# Altium integrated library TI Power Management Power Modules.IntLib: 831 symbols (part 39 of 44)
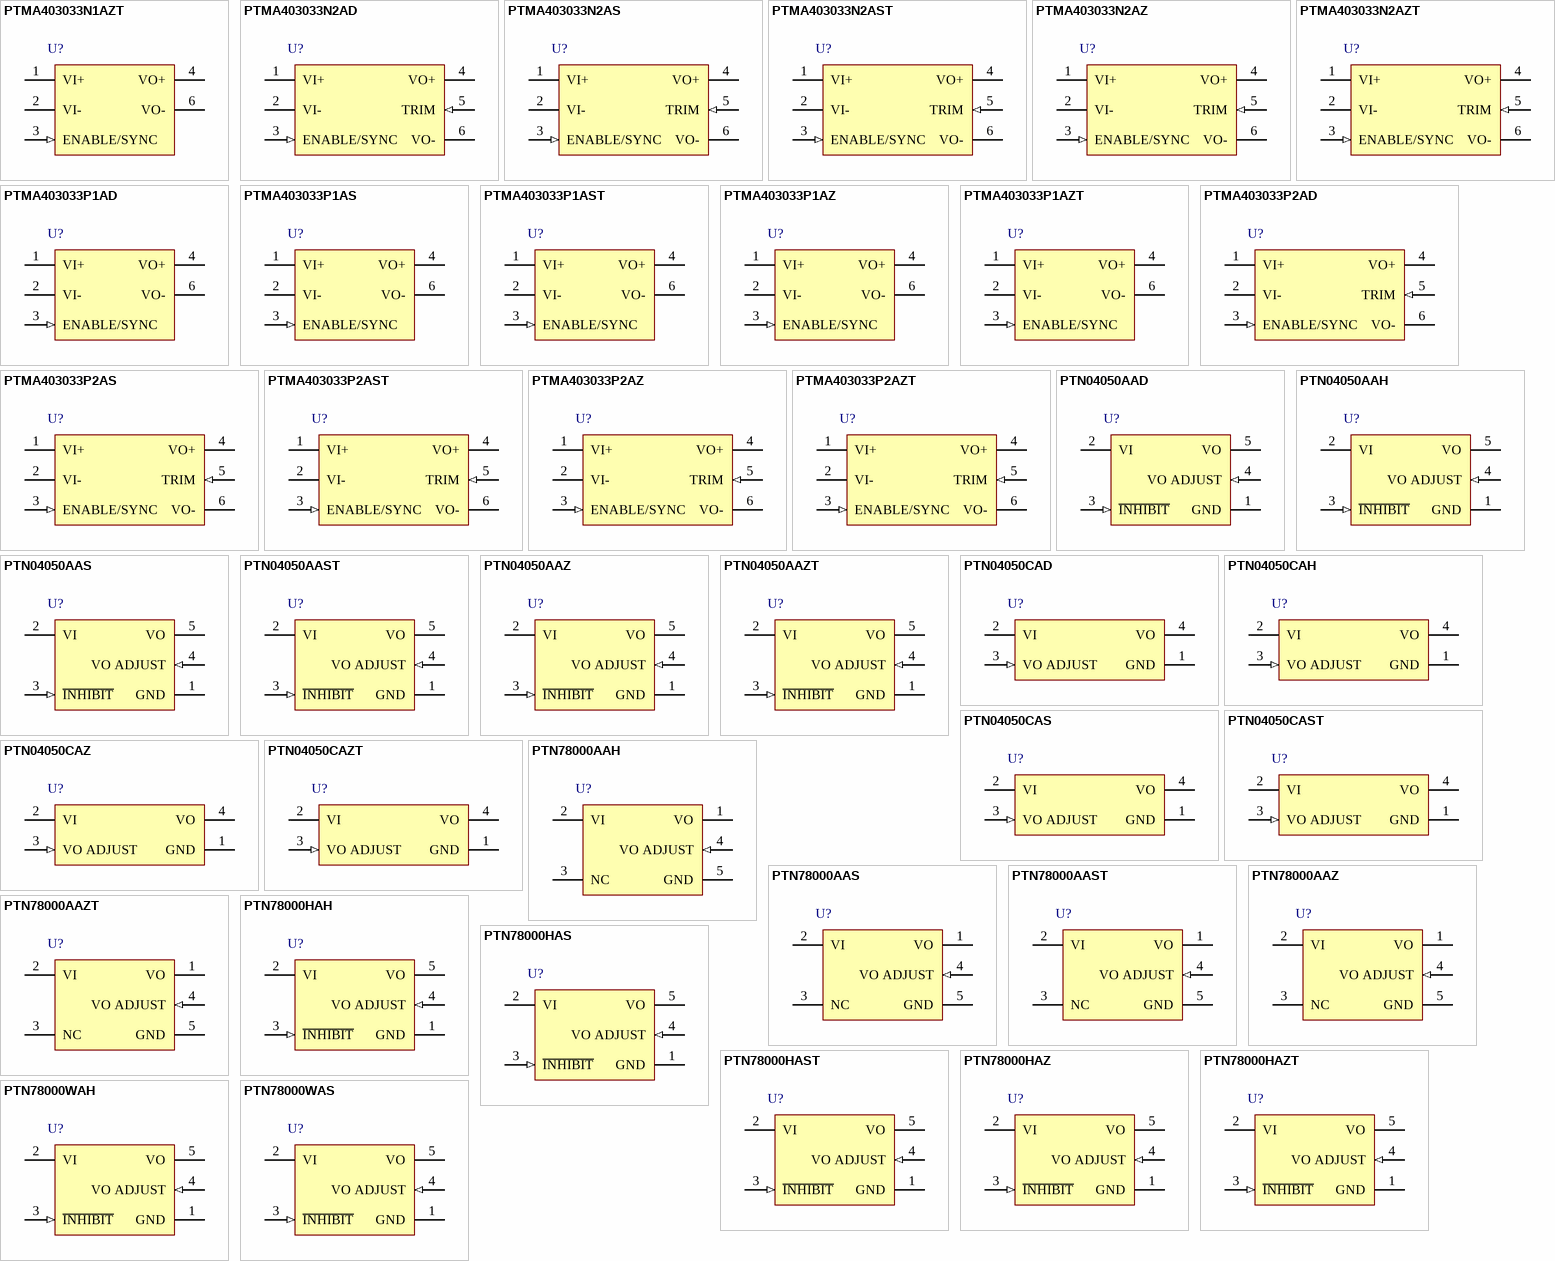
[diagram p61: symbols PTMA403033N1AZT to PTN78000WAS]

## PTN04050AAS
designator U?
6 W, 3.3 / 5 V Input, Wide Adjust Output Positive-to-Negative Converter, -40 to 85 degC, 5-pin Module (EUV5); Manufacturer: Texas Instruments; PartNumber: PTN04050AAS; Eco-Plan: TBD; Iout(Max)(A): 1; SubFamily: Non-Isolated POL; Vin(Max)(V): 7; Vin(Min)(V): 2.9; VO Adjustable: TRUE; Vout(Max)(V): -3.3; Vout(Min)(V): -15; DatasheetVersion: SLTS250; PackageVersion: 4205247-3/C; PackageReference: EUV5; PackageDescription: 5-Pin Plastic Special Shape, Body 12.57 x 22.1 mm; Supplier 1: Digi-Key; Supplier Part Number 1: 296-19681-ND; Supplier 2: Newark; Supplier Part Number 2: 67K8280; Supplier 3: Mouser; Supplier Part Number 3: 595-PTN04050AAS; Regulated Outputs(#): 1; Mounting Technology: Surface Mount; ComponentLink1Description: Manufacturer URL; ComponentLink1URL: http://www.ti.com/; ComponentLink2Description: Datasheet; ComponentLink2URL: http://www.ti.com/general/docs/lit/getliterature.tsp?genericPartNumber=PTN04050A&fileType=pdf; ComponentLink3Description: Package Specification; ComponentLink3URL: http://www.ti.com/lit/ml/mpds236/mpds236.pdf; ComponentLink4Description: URL Link1; ComponentLink4URL: Samples URL:http://www.ti.com/product/ptn04050a#samples
footprint TI-EUV5_V (Module, 5-Leads, Body 22.1x12.57mm)
pins: 1 GND (power) "The common ground connection for the VI and VO power connections. It is also the reference for the VO Adjust control inputs.", 2 VI (power) "The positive input voltage power node to the module, which is referenced to common GND.", 3 ~{INHIBIT} (in) "The Inhibit pin is an open-collector/drain (non-TTL), negative logic input that is referenced to GND. Applying a low-level ground signal to this input disables the module's output. When the Inhibit control is active-low, the (See Datasheet)", 4 VO ADJUST (in) "A 1% resistor must be connected between pin 4 and pin 1 to set the output voltage of the module. If left open-circuit, the output voltage defaults to -1.79 V, which is beyond the recommended operating range. The set-point (See Datasheet)", 5 VO (power) "The negative output voltage power node with respect to the GND node."

## PTN04050AAST
designator U?
6 W, 3.3 / 5 V Input, Wide Adjust Output Positive-to-Negative Converter, -40 to 85 degC, 5-pin Module (EUV5); Manufacturer: Texas Instruments; PartNumber: PTN04050AAST; Eco-Plan: TBD; Iout(Max)(A): 1; SubFamily: Non-Isolated POL; Vin(Max)(V): 7; Vin(Min)(V): 2.9; VO Adjustable: TRUE; Vout(Max)(V): -3.3; Vout(Min)(V): -15; DatasheetVersion: SLTS250; PackageVersion: 4205247-3/C; PackageReference: EUV5; PackageDescription: 5-Pin Plastic Special Shape, Body 12.57 x 22.1 mm; Supplier 1: Digi-Key; Supplier Part Number 1: PTN04050AAST-ND; Supplier 2: Mouser; Supplier Part Number 2: 595-PTN04050AAST; Regulated Outputs(#): 1; Mounting Technology: Surface Mount; ComponentLink1Description: Manufacturer URL; ComponentLink1URL: http://www.ti.com/; ComponentLink2Description: Datasheet; ComponentLink2URL: http://www.ti.com/general/docs/lit/getliterature.tsp?genericPartNumber=PTN04050A&fileType=pdf; ComponentLink3Description: Package Specification; ComponentLink3URL: http://www.ti.com/lit/ml/mpds236/mpds236.pdf; ComponentLink4Description: URL Link1; ComponentLink4URL: Samples URL:http://www.ti.com/product/ptn04050a#samples
footprint TI-EUV5_V (Module, 5-Leads, Body 22.1x12.57mm)
pins: 1 GND (power) "The common ground connection for the VI and VO power connections. It is also the reference for the VO Adjust control inputs.", 2 VI (power) "The positive input voltage power node to the module, which is referenced to common GND.", 3 ~{INHIBIT} (in) "The Inhibit pin is an open-collector/drain (non-TTL), negative logic input that is referenced to GND. Applying a low-level ground signal to this input disables the module's output. When the Inhibit control is active-low, the (See Datasheet)", 4 VO ADJUST (in) "A 1% resistor must be connected between pin 4 and pin 1 to set the output voltage of the module. If left open-circuit, the output voltage defaults to -1.79 V, which is beyond the recommended operating range. The set-point (See Datasheet)", 5 VO (power) "The negative output voltage power node with respect to the GND node."

## PTN04050AAZ
designator U?
6 W, 3.3 / 5 V Input, Wide Adjust Output Positive-to-Negative Converter, -40 to 85 degC, 5-pin Module (EUV5), Pb-Free (RoHS); Manufacturer: Texas Instruments; PartNumber: PTN04050AAZ; Iout(Max)(A): 1; SubFamily: Non-Isolated POL; Vin(Max)(V): 7; Vin(Min)(V): 2.9; VO Adjustable: TRUE; Vout(Max)(V): -3.3; Vout(Min)(V): -15; DatasheetVersion: SLTS250; PackageVersion: 4205247-3/C; PackageReference: EUV5; PackageDescription: 5-Pin Plastic Special Shape, Body 12.57 x 22.1 mm; Supplier 1: Digi-Key; Supplier Part Number 1: 296-20497-ND; Supplier 2: Farnell; Supplier Part Number 2: 1109718; Supplier 3: Newark; Supplier Part Number 3: 92K8243; Supplier 4: Newark; Supplier Part Number 4: 67K8282; Supplier 5: Mouser; Supplier Part Number 5: 595-PTN04050AAZ; Eco-Plan: Pb-Free (RoHS); Regulated Outputs(#): 1; Mounting Technology: Surface Mount; ComponentLink1Description: Manufacturer URL; ComponentLink1URL: http://www.ti.com/; ComponentLink2Description: Datasheet; ComponentLink2URL: http://www.ti.com/general/docs/lit/getliterature.tsp?genericPartNumber=PTN04050A&fileType=pdf; ComponentLink3Description: Package Specification; ComponentLink3URL: http://www.ti.com/lit/ml/mpds236/mpds236.pdf; ComponentLink4Description: URL Link1; ComponentLink4URL: Samples URL:http://www.ti.com/product/ptn04050a#samples
footprint TI-EUV5_V (Module, 5-Leads, Body 22.1x12.57mm)
pins: 1 GND (power) "The common ground connection for the VI and VO power connections. It is also the reference for the VO Adjust control inputs.", 2 VI (power) "The positive input voltage power node to the module, which is referenced to common GND.", 3 ~{INHIBIT} (in) "The Inhibit pin is an open-collector/drain (non-TTL), negative logic input that is referenced to GND. Applying a low-level ground signal to this input disables the module's output. When the Inhibit control is active-low, the (See Datasheet)", 4 VO ADJUST (in) "A 1% resistor must be connected between pin 4 and pin 1 to set the output voltage of the module. If left open-circuit, the output voltage defaults to -1.79 V, which is beyond the recommended operating range. The set-point (See Datasheet)", 5 VO (power) "The negative output voltage power node with respect to the GND node."

## PTN04050AAZT
designator U?
6 W, 3.3 / 5 V Input, Wide Adjust Output Positive-to-Negative Converter, -40 to 85 degC, 5-pin Module (EUV5), Pb-Free (RoHS); Manufacturer: Texas Instruments; PartNumber: PTN04050AAZT; Iout(Max)(A): 1; SubFamily: Non-Isolated POL; Vin(Max)(V): 7; Vin(Min)(V): 2.9; VO Adjustable: TRUE; Vout(Max)(V): -3.3; Vout(Min)(V): -15; DatasheetVersion: SLTS250; PackageVersion: 4205247-3/C; PackageReference: EUV5; PackageDescription: 5-Pin Plastic Special Shape, Body 12.57 x 22.1 mm; Supplier 1: Digi-Key; Supplier Part Number 1: 296-32208-2-ND; Supplier 2: Digi-Key; Supplier Part Number 2: 296-32208-1-ND; Supplier 3: Digi-Key; Supplier Part Number 3: 296-32208-6-ND; Supplier 4: Newark; Supplier Part Number 4: 67K8283; Supplier 5: Mouser; Supplier Part Number 5: 595-PTN04050AAZT; Eco-Plan: Pb-Free (RoHS); Regulated Outputs(#): 1; Mounting Technology: Surface Mount; ComponentLink1Description: Manufacturer URL; ComponentLink1URL: http://www.ti.com/; ComponentLink2Description: Datasheet; ComponentLink2URL: http://www.ti.com/general/docs/lit/getliterature.tsp?genericPartNumber=PTN04050A&fileType=pdf; ComponentLink3Description: Package Specification; ComponentLink3URL: http://www.ti.com/lit/ml/mpds236/mpds236.pdf; ComponentLink4Description: URL Link1; ComponentLink4URL: Samples URL:http://www.ti.com/product/ptn04050a#samples
footprint TI-EUV5_V (Module, 5-Leads, Body 22.1x12.57mm)
pins: 1 GND (power) "The common ground connection for the VI and VO power connections. It is also the reference for the VO Adjust control inputs.", 2 VI (power) "The positive input voltage power node to the module, which is referenced to common GND.", 3 ~{INHIBIT} (in) "The Inhibit pin is an open-collector/drain (non-TTL), negative logic input that is referenced to GND. Applying a low-level ground signal to this input disables the module's output. When the Inhibit control is active-low, the (See Datasheet)", 4 VO ADJUST (in) "A 1% resistor must be connected between pin 4 and pin 1 to set the output voltage of the module. If left open-circuit, the output voltage defaults to -1.79 V, which is beyond the recommended operating range. The set-point (See Datasheet)", 5 VO (power) "The negative output voltage power node with respect to the GND node."

## PTN04050CAD
designator U?
12 W, 3.3 / 5 V Input, Wide Adjust Output Boost Converter, -40 to 85 degC, 4-pin Module (EUU4), Pb-Free (RoHS); Manufacturer: Texas Instruments; PartNumber: PTN04050CAD; Iout(Max)(A): 2.4; Regulated Outputs(#): 1; SubFamily: Non-Isolated POL; Vin(Max)(V): 5.5; Vin(Min)(V): 2.95; VO Adjustable: TRUE; Vout(Max)(V): 15; Vout(Min)(V): 5; DatasheetVersion: SLTS251A; PackageVersion: 4205246-2/C; PackageReference: EUU4; PackageDescription: 4-Pin Plastic Special Shape, Body 12.57 x 22.1 mm; Supplier 1: Digi-Key; Supplier Part Number 1: 296-20498-ND; Supplier 2: Farnell; Supplier Part Number 2: 1109719; Supplier 3: Farnell; Supplier Part Number 3: 2126725; Supplier 4: Newark; Supplier Part Number 4: 61K1475; Supplier 5: Mouser; Supplier Part Number 5: 595-PTN04050CAD; Eco-Plan: Pb-Free (RoHS); Mounting Technology: Through Hole; ComponentLink1Description: Manufacturer URL; ComponentLink1URL: http://www.ti.com/; ComponentLink2Description: Datasheet; ComponentLink2URL: http://www.ti.com/general/docs/lit/getliterature.tsp?genericPartNumber=PTN04050C&fileType=pdf; ComponentLink3Description: Package Specification; ComponentLink3URL: http://www.ti.com/litv/pdf/mpds218a; ComponentLink4Description: URL Link1; ComponentLink4URL: Samples URL:http://www.ti.com/product/ptn04050c#samples
footprint TI-EUU4_V (Module, 4-Leads, Body 22.1x12.57mm)
pins: 1 GND (power) "This is the common ground connection for the VI and VO power connections. It is also the 0 Vdc reference for the VO Adjust control input.", 2 VI (power) "The positive input voltage power node to the module, which is referenced to common GND.", 3 VO ADJUST (in) "A 1% resistor must be connected between this pin and GND (pin 1) to set the output voltage. If left open-circuit, the output voltage will default to its minimum adjust value. The temperature stability of the resistor should (See Datasheet)", 4 VO (power) "The regulated positive power output with respect to the GND node."

## PTN04050CAH
designator U?
12 W, 3.3 / 5 V Input, Wide Adjust Output Boost Converter, -40 to 85 degC, 4-pin Module (EUU4), Pb-Free (RoHS); Manufacturer: Texas Instruments; PartNumber: PTN04050CAH; Iout(Max)(A): 2.4; Regulated Outputs(#): 1; SubFamily: Non-Isolated POL; Vin(Max)(V): 5.5; Vin(Min)(V): 2.95; VO Adjustable: TRUE; Vout(Max)(V): 15; Vout(Min)(V): 5; DatasheetVersion: SLTS251A; PackageVersion: 4205246-2/C; PackageReference: EUU4; PackageDescription: 4-Pin Plastic Special Shape, Body 12.57 x 22.1 mm; Supplier 1: Digi-Key; Supplier Part Number 1: 296-20499-ND; Supplier 2: Farnell; Supplier Part Number 2: 2114043; Supplier 3: Newark; Supplier Part Number 3: 26M8300; Supplier 4: Mouser; Supplier Part Number 4: 595-PTN04050CAH; Eco-Plan: Pb-Free (RoHS); Mounting Technology: Through Hole; ComponentLink1Description: Manufacturer URL; ComponentLink1URL: http://www.ti.com/; ComponentLink2Description: Datasheet; ComponentLink2URL: http://www.ti.com/general/docs/lit/getliterature.tsp?genericPartNumber=PTN04050C&fileType=pdf; ComponentLink3Description: Package Specification; ComponentLink3URL: http://www.ti.com/litv/pdf/mpds218a; ComponentLink4Description: URL Link1; ComponentLink4URL: Samples URL:http://www.ti.com/product/ptn04050c#samples
footprint TI-EUU4_V (Module, 4-Leads, Body 22.1x12.57mm)
pins: 1 GND (power) "This is the common ground connection for the VI and VO power connections. It is also the 0 Vdc reference for the VO Adjust control input.", 2 VI (power) "The positive input voltage power node to the module, which is referenced to common GND.", 3 VO ADJUST (in) "A 1% resistor must be connected between this pin and GND (pin 1) to set the output voltage. If left open-circuit, the output voltage will default to its minimum adjust value. The temperature stability of the resistor should (See Datasheet)", 4 VO (power) "The regulated positive power output with respect to the GND node."

## PTN04050CAS
designator U?
12 W, 3.3 / 5 V Input, Wide Adjust Output Boost Converter, -40 to 85 degC, 4-pin Module (EUV4); Manufacturer: Texas Instruments; PartNumber: PTN04050CAS; Eco-Plan: TBD; Iout(Max)(A): 2.4; Regulated Outputs(#): 1; SubFamily: Non-Isolated POL; Vin(Max)(V): 5.5; Vin(Min)(V): 2.95; VO Adjustable: TRUE; Vout(Max)(V): 15; Vout(Min)(V): 5; DatasheetVersion: SLTS251A; PackageVersion: 4205247-2/C; PackageReference: EUV4; PackageDescription: 4-Pin Plastic Special Shape, Body 12.57 x 22.1 mm; Supplier 1: Digi-Key; Supplier Part Number 1: 296-19682-ND; Supplier 2: Newark; Supplier Part Number 2: 61K1477; Supplier 3: Mouser; Supplier Part Number 3: 595-PTN04050CAS; Mounting Technology: Surface Mount; ComponentLink1Description: Manufacturer URL; ComponentLink1URL: http://www.ti.com/; ComponentLink2Description: Datasheet; ComponentLink2URL: http://www.ti.com/general/docs/lit/getliterature.tsp?genericPartNumber=PTN04050C&fileType=pdf; ComponentLink3Description: Package Specification; ComponentLink3URL: http://www.ti.com/lit/ml/mpds219a/mpds219a.pdf; ComponentLink4Description: URL Link1; ComponentLink4URL: Samples URL:http://www.ti.com/product/ptn04050c#samples
footprint TI-EUV4_V (Module, 4-Leads, Body 22.1x12.57mm)
pins: 1 GND (power) "This is the common ground connection for the VI and VO power connections. It is also the 0 Vdc reference for the VO Adjust control input.", 2 VI (power) "The positive input voltage power node to the module, which is referenced to common GND.", 3 VO ADJUST (in) "A 1% resistor must be connected between this pin and GND (pin 1) to set the output voltage. If left open-circuit, the output voltage will default to its minimum adjust value. The temperature stability of the resistor should (See Datasheet)", 4 VO (power) "The regulated positive power output with respect to the GND node."

## PTN04050CAST
designator U?
12 W, 3.3 / 5 V Input, Wide Adjust Output Boost Converter, -40 to 85 degC, 4-pin Module (EUV4); Manufacturer: Texas Instruments; PartNumber: PTN04050CAST; Eco-Plan: TBD; Iout(Max)(A): 2.4; Regulated Outputs(#): 1; SubFamily: Non-Isolated POL; Vin(Max)(V): 5.5; Vin(Min)(V): 2.95; VO Adjustable: TRUE; Vout(Max)(V): 15; Vout(Min)(V): 5; DatasheetVersion: SLTS251A; PackageVersion: 4205247-2/C; PackageReference: EUV4; PackageDescription: 4-Pin Plastic Special Shape, Body 12.57 x 22.1 mm; Supplier 1: Digi-Key; Supplier Part Number 1: PTN04050CAST-ND; Supplier 2: Mouser; Supplier Part Number 2: 595-PTN04050CAST; Mounting Technology: Surface Mount; ComponentLink1Description: Manufacturer URL; ComponentLink1URL: http://www.ti.com/; ComponentLink2Description: Datasheet; ComponentLink2URL: http://www.ti.com/general/docs/lit/getliterature.tsp?genericPartNumber=PTN04050C&fileType=pdf; ComponentLink3Description: Package Specification; ComponentLink3URL: http://www.ti.com/lit/ml/mpds219a/mpds219a.pdf; ComponentLink4Description: URL Link1; ComponentLink4URL: Samples URL:http://www.ti.com/product/ptn04050c#samples
footprint TI-EUV4_V (Module, 4-Leads, Body 22.1x12.57mm)
pins: 1 GND (power) "This is the common ground connection for the VI and VO power connections. It is also the 0 Vdc reference for the VO Adjust control input.", 2 VI (power) "The positive input voltage power node to the module, which is referenced to common GND.", 3 VO ADJUST (in) "A 1% resistor must be connected between this pin and GND (pin 1) to set the output voltage. If left open-circuit, the output voltage will default to its minimum adjust value. The temperature stability of the resistor should (See Datasheet)", 4 VO (power) "The regulated positive power output with respect to the GND node."

## PTN04050CAZ
designator U?
12 W, 3.3 / 5 V Input, Wide Adjust Output Boost Converter, -40 to 85 degC, 4-pin Module (EUV4), Pb-Free (RoHS); Manufacturer: Texas Instruments; PartNumber: PTN04050CAZ; Iout(Max)(A): 2.4; Regulated Outputs(#): 1; SubFamily: Non-Isolated POL; Vin(Max)(V): 5.5; Vin(Min)(V): 2.95; VO Adjustable: TRUE; Vout(Max)(V): 15; Vout(Min)(V): 5; DatasheetVersion: SLTS251A; PackageVersion: 4205247-2/C; PackageReference: EUV4; PackageDescription: 4-Pin Plastic Special Shape, Body 12.57 x 22.1 mm; Supplier 1: Digi-Key; Supplier Part Number 1: 296-20500-ND; Supplier 2: Farnell; Supplier Part Number 2: 1109720; Supplier 3: Newark; Supplier Part Number 3: 92K8245; Supplier 4: Newark; Supplier Part Number 4: 61K1479; Supplier 5: Mouser; Supplier Part Number 5: 595-PTN04050CAZ; Eco-Plan: Pb-Free (RoHS); Mounting Technology: Surface Mount; ComponentLink1Description: Manufacturer URL; ComponentLink1URL: http://www.ti.com/; ComponentLink2Description: Datasheet; ComponentLink2URL: http://www.ti.com/general/docs/lit/getliterature.tsp?genericPartNumber=PTN04050C&fileType=pdf; ComponentLink3Description: Package Specification; ComponentLink3URL: http://www.ti.com/lit/ml/mpds219a/mpds219a.pdf; ComponentLink4Description: URL Link1; ComponentLink4URL: Samples URL:http://www.ti.com/product/ptn04050c#samples
footprint TI-EUV4_V (Module, 4-Leads, Body 22.1x12.57mm)
pins: 1 GND (power) "This is the common ground connection for the VI and VO power connections. It is also the 0 Vdc reference for the VO Adjust control input.", 2 VI (power) "The positive input voltage power node to the module, which is referenced to common GND.", 3 VO ADJUST (in) "A 1% resistor must be connected between this pin and GND (pin 1) to set the output voltage. If left open-circuit, the output voltage will default to its minimum adjust value. The temperature stability of the resistor should (See Datasheet)", 4 VO (power) "The regulated positive power output with respect to the GND node."

## PTN04050CAZT
designator U?
12 W, 3.3 / 5 V Input, Wide Adjust Output Boost Converter, -40 to 85 degC, 4-pin Module (EUV4), Pb-Free (RoHS); Manufacturer: Texas Instruments; PartNumber: PTN04050CAZT; Iout(Max)(A): 2.4; Regulated Outputs(#): 1; SubFamily: Non-Isolated POL; Vin(Max)(V): 5.5; Vin(Min)(V): 2.95; VO Adjustable: TRUE; Vout(Max)(V): 15; Vout(Min)(V): 5; DatasheetVersion: SLTS251A; PackageVersion: 4205247-2/C; PackageReference: EUV4; PackageDescription: 4-Pin Plastic Special Shape, Body 12.57 x 22.1 mm; Supplier 1: Digi-Key; Supplier Part Number 1: 296-32209-2-ND; Supplier 2: Digi-Key; Supplier Part Number 2: 296-32209-1-ND; Supplier 3: Digi-Key; Supplier Part Number 3: 296-32209-6-ND; Supplier 4: Newark; Supplier Part Number 4: 61K1480; Supplier 5: Mouser; Supplier Part Number 5: 595-PTN04050CAZT; Eco-Plan: Pb-Free (RoHS); Mounting Technology: Surface Mount; ComponentLink1Description: Manufacturer URL; ComponentLink1URL: http://www.ti.com/; ComponentLink2Description: Datasheet; ComponentLink2URL: http://www.ti.com/general/docs/lit/getliterature.tsp?genericPartNumber=PTN04050C&fileType=pdf; ComponentLink3Description: Package Specification; ComponentLink3URL: http://www.ti.com/lit/ml/mpds219a/mpds219a.pdf; ComponentLink4Description: URL Link1; ComponentLink4URL: Samples URL:http://www.ti.com/product/ptn04050c#samples
footprint TI-EUV4_V (Module, 4-Leads, Body 22.1x12.57mm)
pins: 1 GND (power) "This is the common ground connection for the VI and VO power connections. It is also the 0 Vdc reference for the VO Adjust control input.", 2 VI (power) "The positive input voltage power node to the module, which is referenced to common GND.", 3 VO ADJUST (in) "A 1% resistor must be connected between this pin and GND (pin 1) to set the output voltage. If left open-circuit, the output voltage will default to its minimum adjust value. The temperature stability of the resistor should (See Datasheet)", 4 VO (power) "The regulated positive power output with respect to the GND node."

## PTN78000AAH
designator U?
1.5 A, Wide Input, Non-Isolated, Wide Negative Output Adjust Module, -40 to 85 degC, 5-pin Module (EUS5), Pb-Free (RoHS); Manufacturer: Texas Instruments; PartNumber: PTN78000AAH; Iout(Max)(A): 1.5; Regulated Outputs(#): 1; SubFamily: Buck/Boost & Negative Output Module; Vin(Max)(V): 29; Vin(Min)(V): 7; VO Adjustable: TRUE; Vout(Max)(V): -3; Vout(Min)(V): -15; DatasheetVersion: SLTS246B; PackageVersion: 4204990-2/C; PackageReference: EUS5; PackageDescription: 5-Pin Plastic Special Shape, Body 12.57 x 18.92 mm; Supplier 1: Digi-Key; Supplier Part Number 1: 296-20501-ND; Supplier 2: Farnell; Supplier Part Number 2: 1704198; Supplier 3: Newark; Supplier Part Number 3: 28K3818; Supplier 4: Mouser; Supplier Part Number 4: 595-PTN78000AAH; Eco-Plan: Pb-Free (RoHS); Mounting Technology: Through Hole; ComponentLink1Description: Manufacturer URL; ComponentLink1URL: http://www.ti.com/; ComponentLink2Description: Datasheet; ComponentLink2URL: http://www.ti.com/general/docs/lit/getliterature.tsp?genericPartNumber=PTN78000A&fileType=pdf; ComponentLink3Description: Package Specification; ComponentLink3URL: http://www.ti.com/litv/pdf/mpds139b; ComponentLink4Description: URL Link1; ComponentLink4URL: Samples URL:http://www.ti.com/product/ptn78000a#samples
footprint TI-EUS5_V (5-Leads, Plastic Special Shape, Body 18.92x12.57mm)
pins: 1 VO (power) "The negative output voltage power node with respect to the GND node. It is also the reference for the VO Adjust control inputs.", 2 VI (power) "The positive input voltage power node to the module, which is referenced to common GND.", 3 NC "This pin is active and must be isolated from any electrical connection.", 4 VO ADJUST (in) "A 1% resistor must be connected between pin 1 and pin 4 to set the output voltage of the module lower than -3 V. If left open-circuit, the output voltage defaults to -3 V. The temperature stability of the resistor should be (See Datasheet)", 5 GND (power) "The common ground connection for the VI and VO power connections."

## PTN78000AAS
designator U?
1.5 A, Wide Input, Non-Isolated, Wide Negative Output Adjust Module, -40 to 85 degC, 5-pin Module (EUT5); Manufacturer: Texas Instruments; PartNumber: PTN78000AAS; Eco-Plan: TBD; Iout(Max)(A): 1.5; Regulated Outputs(#): 1; SubFamily: Buck/Boost & Negative Output Module; Vin(Max)(V): 29; Vin(Min)(V): 7; VO Adjustable: TRUE; Vout(Max)(V): -3; Vout(Min)(V): -15; DatasheetVersion: SLTS246B; PackageVersion: 4204991-2/C; PackageReference: EUT5; PackageDescription: 5-Pin Plastic Special Shape, Body 12.57 x 18.92 mm; Supplier 1: Digi-Key; Supplier Part Number 1: 296-19753-ND; Supplier 2: Newark; Supplier Part Number 2: 28K3819; Supplier 3: Mouser; Supplier Part Number 3: 595-PTN78000AAS; Mounting Technology: Surface Mount; ComponentLink1Description: Manufacturer URL; ComponentLink1URL: http://www.ti.com/; ComponentLink2Description: Datasheet; ComponentLink2URL: http://www.ti.com/general/docs/lit/getliterature.tsp?genericPartNumber=PTN78000A&fileType=pdf; ComponentLink3Description: Package Specification; ComponentLink3URL: http://www.ti.com/lit/ml/mpds140b/mpds140b.pdf; ComponentLink4Description: URL Link1; ComponentLink4URL: Samples URL:http://www.ti.com/product/ptn78000a#samples
footprint TI-EUT5_V (Module, 5-Leads, Body 18.92x12.57 mm)
pins: 1 VO (power) "The negative output voltage power node with respect to the GND node. It is also the reference for the VO Adjust control inputs.", 2 VI (power) "The positive input voltage power node to the module, which is referenced to common GND.", 3 NC "This pin is active and must be isolated from any electrical connection.", 4 VO ADJUST (in) "A 1% resistor must be connected between pin 1 and pin 4 to set the output voltage of the module lower than -3 V. If left open-circuit, the output voltage defaults to -3 V. The temperature stability of the resistor should be (See Datasheet)", 5 GND (power) "The common ground connection for the VI and VO power connections."

## PTN78000AAST
designator U?
1.5 A, Wide Input, Non-Isolated, Wide Negative Output Adjust Module, -40 to 85 degC, 5-pin Module (EUT5); Manufacturer: Texas Instruments; PartNumber: PTN78000AAST; Eco-Plan: TBD; Iout(Max)(A): 1.5; Regulated Outputs(#): 1; SubFamily: Buck/Boost & Negative Output Module; Vin(Max)(V): 29; Vin(Min)(V): 7; VO Adjustable: TRUE; Vout(Max)(V): -3; Vout(Min)(V): -15; DatasheetVersion: SLTS246B; PackageVersion: 4204991-2/C; PackageReference: EUT5; PackageDescription: 5-Pin Plastic Special Shape, Body 12.57 x 18.92 mm; Supplier 1: Digi-Key; Supplier Part Number 1: PTN78000AAST-ND; Supplier 2: Newark; Supplier Part Number 2: 28K3820; Supplier 3: Mouser; Supplier Part Number 3: 595-PTN78000AAST; Mounting Technology: Surface Mount; ComponentLink1Description: Manufacturer URL; ComponentLink1URL: http://www.ti.com/; ComponentLink2Description: Datasheet; ComponentLink2URL: http://www.ti.com/general/docs/lit/getliterature.tsp?genericPartNumber=PTN78000A&fileType=pdf; ComponentLink3Description: Package Specification; ComponentLink3URL: http://www.ti.com/lit/ml/mpds140b/mpds140b.pdf; ComponentLink4Description: URL Link1; ComponentLink4URL: Samples URL:http://www.ti.com/product/ptn78000a#samples
footprint TI-EUT5_V (Module, 5-Leads, Body 18.92x12.57 mm)
pins: 1 VO (power) "The negative output voltage power node with respect to the GND node. It is also the reference for the VO Adjust control inputs.", 2 VI (power) "The positive input voltage power node to the module, which is referenced to common GND.", 3 NC "This pin is active and must be isolated from any electrical connection.", 4 VO ADJUST (in) "A 1% resistor must be connected between pin 1 and pin 4 to set the output voltage of the module lower than -3 V. If left open-circuit, the output voltage defaults to -3 V. The temperature stability of the resistor should be (See Datasheet)", 5 GND (power) "The common ground connection for the VI and VO power connections."

## PTN78000AAZ
designator U?
1.5 A, Wide Input, Non-Isolated, Wide Negative Output Adjust Module, -40 to 85 degC, 5-pin Module (EUT5), Pb-Free (RoHS); Manufacturer: Texas Instruments; PartNumber: PTN78000AAZ; Iout(Max)(A): 1.5; Regulated Outputs(#): 1; SubFamily: Buck/Boost & Negative Output Module; Vin(Max)(V): 29; Vin(Min)(V): 7; VO Adjustable: TRUE; Vout(Max)(V): -3; Vout(Min)(V): -15; DatasheetVersion: SLTS246B; PackageVersion: 4204991-2/C; PackageReference: EUT5; PackageDescription: 5-Pin Plastic Special Shape, Body 12.57 x 18.92 mm; Supplier 1: Digi-Key; Supplier Part Number 1: 296-20502-ND; Supplier 2: Farnell; Supplier Part Number 2: 1109700; Supplier 3: Newark; Supplier Part Number 3: 28K3821; Supplier 4: Mouser; Supplier Part Number 4: 595-PTN78000AAZ; Eco-Plan: Pb-Free (RoHS); Mounting Technology: Surface Mount; ComponentLink1Description: Manufacturer URL; ComponentLink1URL: http://www.ti.com/; ComponentLink2Description: Datasheet; ComponentLink2URL: http://www.ti.com/general/docs/lit/getliterature.tsp?genericPartNumber=PTN78000A&fileType=pdf; ComponentLink3Description: Package Specification; ComponentLink3URL: http://www.ti.com/lit/ml/mpds140b/mpds140b.pdf; ComponentLink4Description: URL Link1; ComponentLink4URL: Samples URL:http://www.ti.com/product/ptn78000a#samples
footprint TI-EUT5_V (Module, 5-Leads, Body 18.92x12.57 mm)
pins: 1 VO (power) "The negative output voltage power node with respect to the GND node. It is also the reference for the VO Adjust control inputs.", 2 VI (power) "The positive input voltage power node to the module, which is referenced to common GND.", 3 NC "This pin is active and must be isolated from any electrical connection.", 4 VO ADJUST (in) "A 1% resistor must be connected between pin 1 and pin 4 to set the output voltage of the module lower than -3 V. If left open-circuit, the output voltage defaults to -3 V. The temperature stability of the resistor should be (See Datasheet)", 5 GND (power) "The common ground connection for the VI and VO power connections."

## PTN78000AAZT
designator U?
1.5 A, Wide Input, Non-Isolated, Wide Negative Output Adjust Module, -40 to 85 degC, 5-pin Module (EUT5), Pb-Free (RoHS); Manufacturer: Texas Instruments; PartNumber: PTN78000AAZT; Iout(Max)(A): 1.5; Regulated Outputs(#): 1; SubFamily: Buck/Boost & Negative Output Module; Vin(Max)(V): 29; Vin(Min)(V): 7; VO Adjustable: TRUE; Vout(Max)(V): -3; Vout(Min)(V): -15; DatasheetVersion: SLTS246B; PackageVersion: 4204991-2/C; PackageReference: EUT5; PackageDescription: 5-Pin Plastic Special Shape, Body 12.57 x 18.92 mm; Supplier 1: Digi-Key; Supplier Part Number 1: PTN78000AAZT-ND; Supplier 2: Newark; Supplier Part Number 2: 28K3822; Supplier 3: Mouser; Supplier Part Number 3: 595-PTN78000AAZT; Eco-Plan: Pb-Free (RoHS); Mounting Technology: Surface Mount; ComponentLink1Description: Manufacturer URL; ComponentLink1URL: http://www.ti.com/; ComponentLink2Description: Datasheet; ComponentLink2URL: http://www.ti.com/general/docs/lit/getliterature.tsp?genericPartNumber=PTN78000A&fileType=pdf; ComponentLink3Description: Package Specification; ComponentLink3URL: http://www.ti.com/lit/ml/mpds140b/mpds140b.pdf; ComponentLink4Description: URL Link1; ComponentLink4URL: Samples URL:http://www.ti.com/product/tps55010#samples
footprint TI-EUT5_V (Module, 5-Leads, Body 18.92x12.57 mm)
pins: 1 VO (power) "The negative output voltage power node with respect to the GND node. It is also the reference for the VO Adjust control inputs.", 2 VI (power) "The positive input voltage power node to the module, which is referenced to common GND.", 3 NC "This pin is active and must be isolated from any electrical connection.", 4 VO ADJUST (in) "A 1% resistor must be connected between pin 1 and pin 4 to set the output voltage of the module lower than -3 V. If left open-circuit, the output voltage defaults to -3 V. The temperature stability of the resistor should be (See Datasheet)", 5 GND (power) "The common ground connection for the VI and VO power connections."

## PTN78000HAH
designator U?
1.5 A, Wide Input, Wide Output Adjust Module, -40 to 85 degC, 5-pin Module (EUS5), Pb-Free (RoHS); Manufacturer: Texas Instruments; PartNumber: PTN78000HAH; Iout(Max)(A): 1.5; Regulated Outputs(#): 1; SubFamily: Non-Isolated POL; Vin(Max)(V): 36; Vin(Min)(V): 15; VO Adjustable: TRUE; Vout(Max)(V): 22; Vout(Min)(V): 11.85; DatasheetVersion: SLTS230C; PackageVersion: 4204990-2/C; PackageReference: EUS5; PackageDescription: 5-Pin Plastic Special Shape, Body 12.57 x 18.92 mm; Supplier 1: Digi-Key; Supplier Part Number 1: 296-20503-ND; Supplier 2: Farnell; Supplier Part Number 2: 1704194; Supplier 3: Newark; Supplier Part Number 3: 33K5367; Supplier 4: Mouser; Supplier Part Number 4: 595-PTN78000HAH; Eco-Plan: Pb-Free (RoHS); Mounting Technology: Through Hole; ComponentLink1Description: Manufacturer URL; ComponentLink1URL: http://www.ti.com/; ComponentLink2Description: Datasheet; ComponentLink2URL: http://www.ti.com/general/docs/lit/getliterature.tsp?genericPartNumber=PTN78000H&fileType=pdf; ComponentLink3Description: Package Specification; ComponentLink3URL: http://www.ti.com/litv/pdf/mpds139b; ComponentLink4Description: URL Link1; ComponentLink4URL: Samples URL:http://www.ti.com/product/ptn78000h#samples
footprint TI-EUS5_V (5-Leads, Plastic Special Shape, Body 18.92x12.57mm)
pins: 1 GND (power) "This is the common ground connection for the VI and VO power connections. It is also the 0 Vdc reference for the Inhibit and VO Adjust control inputs.", 2 VI (power) "The positive input voltage power node to the module, which is referenced to common GND.", 3 ~{INHIBIT} (in) "The Inhibit pin is an open-collector/drain active-low input that is referenced to GND. Applying a low-level ground signal to this input disables the module's output and turns off the output voltage. When the Inhibit control (See Datasheet)", 4 VO ADJUST (in) "A 1% resistor must be connected between this pin and GND (pin 1) to set the output voltage. If left open-circuit, the output voltage defaults to its minimum adjust value. The temperature stability of the resistor should be (See Datasheet)", 5 VO (power) "The regulated positive power output with respect to the GND node."

## PTN78000HAS
designator U?
1.5 A, Wide Input, Wide Output Adjust Module, -40 to 85 degC, 5-pin Module (EUT5); Manufacturer: Texas Instruments; PartNumber: PTN78000HAS; Eco-Plan: TBD; Iout(Max)(A): 1.5; Regulated Outputs(#): 1; SubFamily: Non-Isolated POL; Vin(Max)(V): 36; Vin(Min)(V): 15; VO Adjustable: TRUE; Vout(Max)(V): 22; Vout(Min)(V): 11.85; DatasheetVersion: SLTS230C; PackageVersion: 4204991-2/C; PackageReference: EUT5; PackageDescription: 5-Pin Plastic Special Shape, Body 12.57 x 18.92 mm; Supplier 1: Digi-Key; Supplier Part Number 1: 296-20504-ND; Supplier 2: Newark; Supplier Part Number 2: 33K5368; Supplier 3: Mouser; Supplier Part Number 3: 595-PTN78000HAS; Mounting Technology: Surface Mount; ComponentLink1Description: Manufacturer URL; ComponentLink1URL: http://www.ti.com/; ComponentLink2Description: Datasheet; ComponentLink2URL: http://www.ti.com/general/docs/lit/getliterature.tsp?genericPartNumber=PTN78000H&fileType=pdf; ComponentLink3Description: Package Specification; ComponentLink3URL: http://www.ti.com/lit/ml/mpds140b/mpds140b.pdf; ComponentLink4Description: URL Link1; ComponentLink4URL: Samples URL:http://www.ti.com/product/ptn78000h#samples
footprint TI-EUT5_V (Module, 5-Leads, Body 18.92x12.57 mm)
pins: 1 GND (power) "This is the common ground connection for the VI and VO power connections. It is also the 0 Vdc reference for the Inhibit , the VO Adjust, and the Track control inputs.", 2 VI (power) "The positive input voltage power node to the module, which is referenced to common GND.", 3 ~{INHIBIT} (in) "The Inhibit pin is an open-collector/drain-negative logic input that is referenced to GND. Applying a low-level ground signal to this input disables the module's output. When the Inhibit control is active, the input current (See Datasheet)", 4 VO ADJUST (in) "A 1% resistor must be connected between this pin and GND (pin 1) to set the output voltage. If left open-circuit, the output voltage defaults to its minimum adjust value. The temperature stability of the resistor should be (See Datasheet)", 5 VO (power) "The regulated positive power output with respect to the GND node"

## PTN78000HAST
designator U?
1.5 A, Wide Input, Wide Output Adjust Module, -40 to 85 degC, 5-pin Module (EUT5); Manufacturer: Texas Instruments; PartNumber: PTN78000HAST; Eco-Plan: TBD; Iout(Max)(A): 1.5; Regulated Outputs(#): 1; SubFamily: Non-Isolated POL; Vin(Max)(V): 36; Vin(Min)(V): 15; VO Adjustable: TRUE; Vout(Max)(V): 22; Vout(Min)(V): 11.85; DatasheetVersion: SLTS230C; PackageVersion: 4204991-2/C; PackageReference: EUT5; PackageDescription: 5-Pin Plastic Special Shape, Body 12.57 x 18.92 mm; Supplier 1: Digi-Key; Supplier Part Number 1: PTN78000HAST-ND; Supplier 2: Mouser; Supplier Part Number 2: 595-PTN78000HAST; Mounting Technology: Surface Mount; ComponentLink1Description: Manufacturer URL; ComponentLink1URL: http://www.ti.com/; ComponentLink2Description: Datasheet; ComponentLink2URL: http://www.ti.com/general/docs/lit/getliterature.tsp?genericPartNumber=PTN78000H&fileType=pdf; ComponentLink3Description: Package Specification; ComponentLink3URL: http://www.ti.com/lit/ml/mpds140b/mpds140b.pdf; ComponentLink4Description: URL Link1; ComponentLink4URL: Samples URL:http://www.ti.com/product/ptn78000h#samples
footprint TI-EUT5_V (Module, 5-Leads, Body 18.92x12.57 mm)
pins: 1 GND (power) "This is the common ground connection for the VI and VO power connections. It is also the 0 Vdc reference for the Inhibit , the VO Adjust, and the Track control inputs.", 2 VI (power) "The positive input voltage power node to the module, which is referenced to common GND.", 3 ~{INHIBIT} (in) "The Inhibit pin is an open-collector/drain-negative logic input that is referenced to GND. Applying a low-level ground signal to this input disables the module's output. When the Inhibit control is active, the input current (See Datasheet)", 4 VO ADJUST (in) "A 1% resistor must be connected between this pin and GND (pin 1) to set the output voltage. If left open-circuit, the output voltage defaults to its minimum adjust value. The temperature stability of the resistor should be (See Datasheet)", 5 VO (power) "The regulated positive power output with respect to the GND node"

## PTN78000HAZ
designator U?
1.5 A, Wide Input, Wide Output Adjust Module, -40 to 85 degC, 5-pin Module (EUT5), Pb-Free (RoHS); Manufacturer: Texas Instruments; PartNumber: PTN78000HAZ; Iout(Max)(A): 1.5; Regulated Outputs(#): 1; SubFamily: Non-Isolated POL; Vin(Max)(V): 36; Vin(Min)(V): 15; VO Adjustable: TRUE; Vout(Max)(V): 22; Vout(Min)(V): 11.85; DatasheetVersion: SLTS230C; PackageVersion: 4204991-2/C; PackageReference: EUT5; PackageDescription: 5-Pin Plastic Special Shape, Body 12.57 x 18.92 mm; Supplier 1: Digi-Key; Supplier Part Number 1: 296-20505-ND; Supplier 2: Farnell; Supplier Part Number 2: 1109702; Supplier 3: Newark; Supplier Part Number 3: 92K8247; Supplier 4: Newark; Supplier Part Number 4: 33K5370; Supplier 5: Mouser; Supplier Part Number 5: 595-PTN78000HAZ; Eco-Plan: Pb-Free (RoHS); Mounting Technology: Surface Mount; ComponentLink1Description: Manufacturer URL; ComponentLink1URL: http://www.ti.com/; ComponentLink2Description: Datasheet; ComponentLink2URL: http://www.ti.com/general/docs/lit/getliterature.tsp?genericPartNumber=PTN78000H&fileType=pdf; ComponentLink3Description: Package Specification; ComponentLink3URL: http://www.ti.com/lit/ml/mpds140b/mpds140b.pdf; ComponentLink4Description: URL Link1; ComponentLink4URL: Samples URL:http://www.ti.com/product/ptn78000h#samples
footprint TI-EUT5_V (Module, 5-Leads, Body 18.92x12.57 mm)
pins: 1 GND (power) "This is the common ground connection for the VI and VO power connections. It is also the 0 Vdc reference for the Inhibit , the VO Adjust, and the Track control inputs.", 2 VI (power) "The positive input voltage power node to the module, which is referenced to common GND.", 3 ~{INHIBIT} (in) "The Inhibit pin is an open-collector/drain-negative logic input that is referenced to GND. Applying a low-level ground signal to this input disables the module's output. When the Inhibit control is active, the input current (See Datasheet)", 4 VO ADJUST (in) "A 1% resistor must be connected between this pin and GND (pin 1) to set the output voltage. If left open-circuit, the output voltage defaults to its minimum adjust value. The temperature stability of the resistor should be (See Datasheet)", 5 VO (power) "The regulated positive power output with respect to the GND node"

## PTN78000HAZT
designator U?
1.5 A, Wide Input, Wide Output Adjust Module, -40 to 85 degC, 5-pin Module (EUT5), Pb-Free (RoHS); Manufacturer: Texas Instruments; PartNumber: PTN78000HAZT; Iout(Max)(A): 1.5; Regulated Outputs(#): 1; SubFamily: Non-Isolated POL; Vin(Max)(V): 36; Vin(Min)(V): 15; VO Adjustable: TRUE; Vout(Max)(V): 22; Vout(Min)(V): 11.85; DatasheetVersion: SLTS230C; PackageVersion: 4204991-2/C; PackageReference: EUT5; PackageDescription: 5-Pin Plastic Special Shape, Body 12.57 x 18.92 mm; Supplier 1: Digi-Key; Supplier Part Number 1: PTN78000HAZT-ND; Supplier 2: Mouser; Supplier Part Number 2: 595-PTN78000HAZT; Eco-Plan: Pb-Free (RoHS); Mounting Technology: Surface Mount; ComponentLink1Description: Manufacturer URL; ComponentLink1URL: http://www.ti.com/; ComponentLink2Description: Datasheet; ComponentLink2URL: http://www.ti.com/general/docs/lit/getliterature.tsp?genericPartNumber=PTN78000H&fileType=pdf; ComponentLink3Description: Package Specification; ComponentLink3URL: http://www.ti.com/lit/ml/mpds140b/mpds140b.pdf; ComponentLink4Description: URL Link1; ComponentLink4URL: Samples URL:http://www.ti.com/product/ptn78000h#samples
footprint TI-EUT5_V (Module, 5-Leads, Body 18.92x12.57 mm)
pins: 1 GND (power) "This is the common ground connection for the VI and VO power connections. It is also the 0 Vdc reference for the Inhibit , the VO Adjust, and the Track control inputs.", 2 VI (power) "The positive input voltage power node to the module, which is referenced to common GND.", 3 ~{INHIBIT} (in) "The Inhibit pin is an open-collector/drain-negative logic input that is referenced to GND. Applying a low-level ground signal to this input disables the module's output. When the Inhibit control is active, the input current (See Datasheet)", 4 VO ADJUST (in) "A 1% resistor must be connected between this pin and GND (pin 1) to set the output voltage. If left open-circuit, the output voltage defaults to its minimum adjust value. The temperature stability of the resistor should be (See Datasheet)", 5 VO (power) "The regulated positive power output with respect to the GND node"

## PTN78000WAH
designator U?
1.5 A, Wide-Input Adjustable Switching Regulator, -40 to 85 degC, 5-pin Module (EUS5), Pb-Free (RoHS); Manufacturer: Texas Instruments; PartNumber: PTN78000WAH; Iout(Max)(A): 1.5; Regulated Outputs(#): 1; SubFamily: Non-Isolated POL; Vin(Max)(V): 36; Vin(Min)(V): 7; VO Adjustable: TRUE; Vout(Max)(V): 12.6; Vout(Min)(V): 2.5; DatasheetVersion: SLTS230C; PackageVersion: 4204990-2/C; PackageReference: EUS5; PackageDescription: 5-Pin Plastic Special Shape, Body 12.57 x 18.92 mm; Supplier 1: Digi-Key; Supplier Part Number 1: 296-20506-ND; Supplier 2: Farnell; Supplier Part Number 2: 1564908; Supplier 3: Newark; Supplier Part Number 3: 65J6317; Supplier 4: Mouser; Supplier Part Number 4: 595-PTN78000WAH; Eco-Plan: Pb-Free (RoHS); Mounting Technology: Through Hole; ComponentLink1Description: Manufacturer URL; ComponentLink1URL: http://www.ti.com/; ComponentLink2Description: Datasheet; ComponentLink2URL: http://www.ti.com/general/docs/lit/getliterature.tsp?genericPartNumber=PTN78000W&fileType=pdf; ComponentLink3Description: Package Specification; ComponentLink3URL: http://www.ti.com/litv/pdf/mpds139b; ComponentLink4Description: URL Link1; ComponentLink4URL: Samples URL:http://www.ti.com/product/ptn78000w#samples
footprint TI-EUS5_V (5-Leads, Plastic Special Shape, Body 18.92x12.57mm)
pins: 1 GND (power) "This is the common ground connection for the VI and VO power connections. It is also the 0 Vdc reference for the Inhibit , the VO Adjust, and the Track control inputs.", 2 VI (power) "The positive input voltage power node to the module, which is referenced to common GND.", 3 ~{INHIBIT} (in) "The Inhibit pin is an open-collector/drain-negative logic input that is referenced to GND. Applying a low-level ground signal to this input disables the module's output. When the Inhibit control is active, the input current (See Datasheet)", 4 VO ADJUST (in) "A 1% resistor must be connected between this pin and GND (pin 1) to set the output voltage. If left open-circuit, the output voltage defaults to its minimum adjust value. The temperature stability of the resistor should be (See Datasheet)", 5 VO (power) "The regulated positive power output with respect to the GND node"

## PTN78000WAS
designator U?
1.5 A, Wide-Input Adjustable Switching Regulator, -40 to 85 degC, 5-pin Module (EUT5); Manufacturer: Texas Instruments; PartNumber: PTN78000WAS; Eco-Plan: TBD; Iout(Max)(A): 1.5; Regulated Outputs(#): 1; SubFamily: Non-Isolated POL; Vin(Max)(V): 36; Vin(Min)(V): 7; VO Adjustable: TRUE; Vout(Max)(V): 12.6; Vout(Min)(V): 2.5; DatasheetVersion: SLTS230C; PackageVersion: 4204991-2/C; PackageReference: EUT5; PackageDescription: 5-Pin Plastic Special Shape, Body 12.57 x 18.92 mm; Supplier 1: Digi-Key; Supplier Part Number 1: 296-20507-ND; Supplier 2: Farnell; Supplier Part Number 2: 1295924; Supplier 3: Newark; Supplier Part Number 3: 65J6318; Supplier 4: Mouser; Supplier Part Number 4: 595-PTN78000WAS; Mounting Technology: Surface Mount; ComponentLink1Description: Manufacturer URL; ComponentLink1URL: http://www.ti.com/; ComponentLink2Description: Datasheet; ComponentLink2URL: http://www.ti.com/general/docs/lit/getliterature.tsp?genericPartNumber=PTN78000W&fileType=pdf; ComponentLink3Description: Package Specification; ComponentLink3URL: http://www.ti.com/lit/ml/mpds140b/mpds140b.pdf; ComponentLink4Description: URL Link1; ComponentLink4URL: Samples URL:http://www.ti.com/product/ptn78000w#samples
footprint TI-EUT5_V (Module, 5-Leads, Body 18.92x12.57 mm)
pins: 1 GND (power) "This is the common ground connection for the VI and VO power connections. It is also the 0 Vdc reference for the Inhibit and VO Adjust control inputs.", 2 VI (power) "The positive input voltage power node to the module, which is referenced to common GND.", 3 ~{INHIBIT} (in) "The Inhibit pin is an open-collector/drain active-low input that is referenced to GND. Applying a low-level ground signal to this input disables the module's output and turns off the output voltage. When the Inhibit control (See Datasheet)", 4 VO ADJUST (in) "A 1% resistor must be connected between this pin and GND (pin 1) to set the output voltage. If left open-circuit, the output voltage defaults to its minimum adjust value. The temperature stability of the resistor should be (See Datasheet)", 5 VO (power) "The regulated positive power output with respect to the GND node."

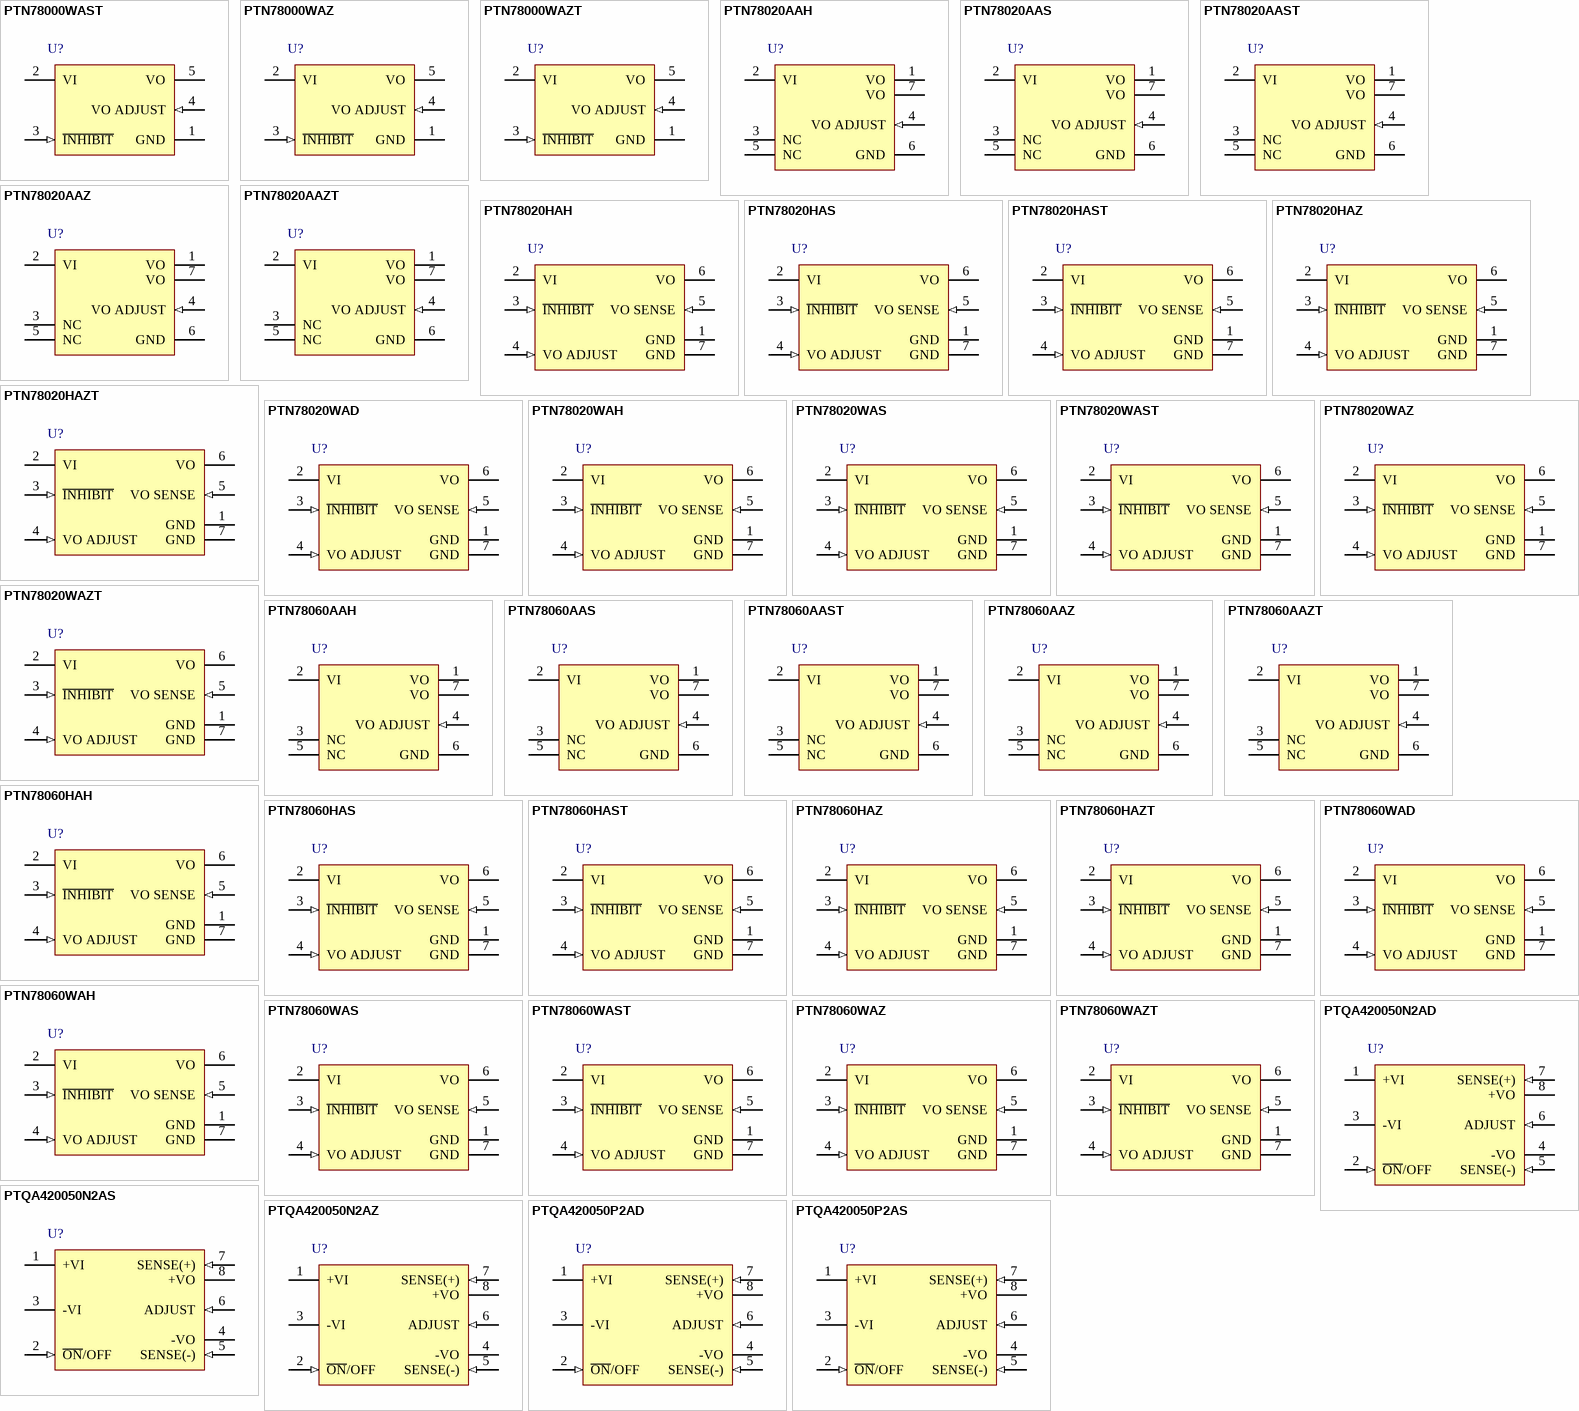
[diagram p22: symbols PTN78000WAST to PTQA420050P2AS]

## PTN78000WAST
designator U?
1.5 A, Wide-Input Adjustable Switching Regulator, -40 to 85 degC, 5-pin Module (EUT5); Manufacturer: Texas Instruments; PartNumber: PTN78000WAST; Eco-Plan: TBD; Iout(Max)(A): 1.5; Regulated Outputs(#): 1; SubFamily: Non-Isolated POL; Vin(Max)(V): 36; Vin(Min)(V): 7; VO Adjustable: TRUE; Vout(Max)(V): 12.6; Vout(Min)(V): 2.5; DatasheetVersion: SLTS230C; PackageVersion: 4204991-2/C; PackageReference: EUT5; PackageDescription: 5-Pin Plastic Special Shape, Body 12.57 x 18.92 mm; Supplier 1: Digi-Key; Supplier Part Number 1: PTN78000WAST-ND; Supplier 2: Newark; Supplier Part Number 2: 65J6319; Supplier 3: Mouser; Supplier Part Number 3: 595-PTN78000WAST; Mounting Technology: Surface Mount; ComponentLink1Description: Manufacturer URL; ComponentLink1URL: http://www.ti.com/; ComponentLink2Description: Datasheet; ComponentLink2URL: http://www.ti.com/general/docs/lit/getliterature.tsp?genericPartNumber=PTN78000W&fileType=pdf; ComponentLink3Description: Package Specification; ComponentLink3URL: http://www.ti.com/lit/ml/mpds140b/mpds140b.pdf; ComponentLink4Description: URL Link1; ComponentLink4URL: Samples URL:http://www.ti.com/product/ptn78000w#samples
footprint TI-EUT5_V (Module, 5-Leads, Body 18.92x12.57 mm)
pins: 1 GND (power) "This is the common ground connection for the VI and VO power connections. It is also the 0 Vdc reference for the Inhibit and VO Adjust control inputs.", 2 VI (power) "The positive input voltage power node to the module, which is referenced to common GND.", 3 ~{INHIBIT} (in) "The Inhibit pin is an open-collector/drain active-low input that is referenced to GND. Applying a low-level ground signal to this input disables the module's output and turns off the output voltage. When the Inhibit control (See Datasheet)", 4 VO ADJUST (in) "A 1% resistor must be connected between this pin and GND (pin 1) to set the output voltage. If left open-circuit, the output voltage defaults to its minimum adjust value. The temperature stability of the resistor should be (See Datasheet)", 5 VO (power) "The regulated positive power output with respect to the GND node."

## PTN78000WAZ
designator U?
1.5 A, Wide-Input Adjustable Switching Regulator, -40 to 85 degC, 5-pin Module (EUT5), Pb-Free (RoHS); Manufacturer: Texas Instruments; PartNumber: PTN78000WAZ; Iout(Max)(A): 1.5; Regulated Outputs(#): 1; SubFamily: Non-Isolated POL; Vin(Max)(V): 36; Vin(Min)(V): 7; VO Adjustable: TRUE; Vout(Max)(V): 12.6; Vout(Min)(V): 2.5; DatasheetVersion: SLTS230C; PackageVersion: 4204991-2/C; PackageReference: EUT5; PackageDescription: 5-Pin Plastic Special Shape, Body 12.57 x 18.92 mm; Supplier 1: Digi-Key; Supplier Part Number 1: 296-20508-ND; Supplier 2: Farnell; Supplier Part Number 2: 1109697; Supplier 3: Newark; Supplier Part Number 3: 37K0762; Supplier 4: Mouser; Supplier Part Number 4: 595-PTN78000WAZ; Eco-Plan: Pb-Free (RoHS); Mounting Technology: Surface Mount; ComponentLink1Description: Manufacturer URL; ComponentLink1URL: http://www.ti.com/; ComponentLink2Description: Datasheet; ComponentLink2URL: http://www.ti.com/general/docs/lit/getliterature.tsp?genericPartNumber=PTN78000W&fileType=pdf; ComponentLink3Description: Package Specification; ComponentLink3URL: http://www.ti.com/lit/ml/mpds140b/mpds140b.pdf; ComponentLink4Description: URL Link1; ComponentLink4URL: Samples URL:http://www.ti.com/product/ptn78000w#samples
footprint TI-EUT5_V (Module, 5-Leads, Body 18.92x12.57 mm)
pins: 1 GND (power) "This is the common ground connection for the VI and VO power connections. It is also the 0 Vdc reference for the Inhibit and VO Adjust control inputs.", 2 VI (power) "The positive input voltage power node to the module, which is referenced to common GND.", 3 ~{INHIBIT} (in) "The Inhibit pin is an open-collector/drain active-low input that is referenced to GND. Applying a low-level ground signal to this input disables the module's output and turns off the output voltage. When the Inhibit control (See Datasheet)", 4 VO ADJUST (in) "A 1% resistor must be connected between this pin and GND (pin 1) to set the output voltage. If left open-circuit, the output voltage defaults to its minimum adjust value. The temperature stability of the resistor should be (See Datasheet)", 5 VO (power) "The regulated positive power output with respect to the GND node."